# EAGLE library part LTM4622AIY (library LTM4622AIY)
None Check prices <https://pricing.snapeda.com/parts/LTM4622AIY/Analog%20Devices/view-part?ref=eda>
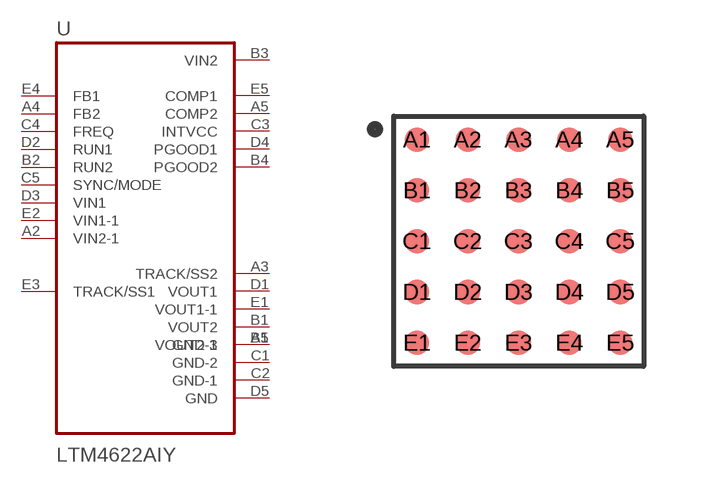
[diagram p0: symbol with the pads of BGA25C127P5X5_625X625X262N; footprint BGA25C127P5X5_625X625X262N]

Designator prefix U

## LTM4622AIY (Availability: Warning; Description: Non-Isolated PoL Module DC DC Converter 2 Output 1.5 ~ 12V 1.5 ~ 12V 2A, 2A 3.6V - 20V Input; MF: Analog Devices; MP: LTM4622AIY; Package: BGA -25 Analog Devices; Price: None; Purchase-URL: https://pricing.snapeda.com/search/part/LTM4622AIY/?ref=eda)  [BGA25C127P5X5_625X625X262N]
A1  VOUT2-1  out
A2  VIN2-1  in
A3  TRACK/SS2  out
A4  FB2  in
A5  COMP2  out
B1  VOUT2  out
B2  RUN2  in
B3  VIN2  pwr
B4  PGOOD2  out
B5  GND-3  pwr
C1  GND-2  pwr
C2  GND-1  pwr
C3  INTVCC  out
C4  FREQ  in
C5  SYNC/MODE  in
D1  VOUT1  out
D2  RUN1  in
D3  VIN1  in
D4  PGOOD1  out
D5  GND  pwr
E1  VOUT1-1  out
E2  VIN1-1  in
E3  TRACK/SS1
E4  FB1  in
E5  COMP1  out

## Footprint BGA25C127P5X5_625X625X262N (pad centres in mm)
smd 0.61 x 0.61: A1 -2.54,2.54; A2 -1.27,2.54; A3 0,2.54; A4 1.27,2.54; A5 2.54,2.54; B1 -2.54,1.27; B2 -1.27,1.27; B3 0,1.27; B4 1.27,1.27; B5 2.54,1.27; C1 -2.54,0; C2 -1.27,0; C3 0,0; C4 1.27,0; C5 2.54,0; D1 -2.54,-1.27; D2 -1.27,-1.27; D3 0,-1.27; D4 1.27,-1.27; D5 2.54,-1.27; E1 -2.54,-2.54; E2 -1.27,-2.54; E3 0,-2.54; E4 1.27,-2.54; E5 2.54,-2.54